# Altium schematic symbol library usb board.SchLib: 14 symbols
Pins are listed as number, name and electrical type; pins without a type are passive.

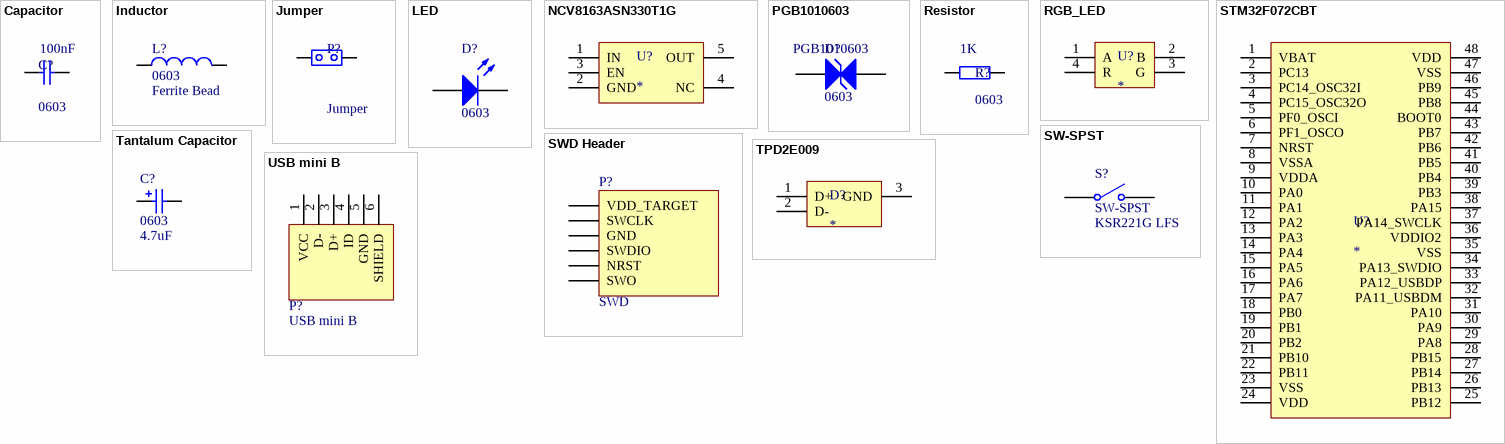
[diagram p0: symbols Capacitor to USB mini B]

## Capacitor
designator C?, comment 0603  value 100nF
Capacitor
footprint 0603_HandSoldering (Chip Resistor, 2-Leads, Body 1.6x0.8mm, IPC Medium Density)
pins: 1, 2

## Inductor
designator L?, comment 0603  value Ferrite Bead
Inductor
footprint 0603_HandSoldering (Chip Resistor, 2-Leads, Body 1.6x0.8mm, IPC Medium Density)
pins: 1, 2

## Jumper
designator P?
Jumper, Through-Hole
footprint JMP_TH (Jumper, Through-Hole)
pins: 1, 2

## LED
designator D?, comment 0603
LED
footprint diode_0603_HandSoldering (Chip Diode, 2-Leads, Body 1.6x0.8mm, IPC Medium Density)
pins: 1 K, 2 A

## NCV8163ASN330T1G
designator U?
3V3 LDO
footprint NCV8163ASN330T1G_SOT32_5 (SOT23, 5-Leads, Body 3,00x2,75mm, Pitch 0,95mm, IPC Medium Density)
pins: 1 IN, 2 GND, 3 EN, 4 NC, 5 OUT

## PGB1010603
designator D?, comment 0603  value PGB1010603
ESD diode
footprint 0603_HandSoldering (Chip Resistor, 2-Leads, Body 1.6x0.8mm, IPC Medium Density)
pins: 1 A, 2 K

## Resistor
designator R?, comment 0603  value 1K
Resistor
footprint 0603_HandSoldering (Chip Resistor, 2-Leads, Body 1.6x0.8mm, IPC Medium Density)
pins: 1, 2

## RGB_LED
designator U?
RGB LED ASMB-MTB0-0A3A2
footprint PLCC-4_LED (Standard PLCC-4 LED package)
pins: 1 A, 2 B, 3 G, 4 R

## STM32F072CBT
designator U?
ARM Cortex M0 MCU
footprint LQFP48 (TSQFP, 48-Leads, Body 7,00x7,00mm, Pitch 0,50mm, IPC Medium Density)
pins: 1 VBAT, 2 PC13, 3 PC14_OSC32I, 4 PC15_OSC32O, 5 PF0_OSCI, 6 PF1_OSCO, 7 NRST, 8 VSSA, 9 VDDA, 10 PA0, 11 PA1, 12 PA2, 13 PA3, 14 PA4, 15 PA5, 16 PA6, 17 PA7, 18 PB0, 19 PB1, 20 PB2, 21 PB10, 22 PB11, 23 VSS, 24 VDD, 25 PB12, 26 PB13, 27 PB14, 28 PB15, 29 PA8, 30 PA9, 31 PA10, 32 PA11_USBDM, 33 PA12_USBDP, 34 PA13_SWDIO, 35 VSS, 36 VDDIO2, 37 PA14_SWCLK, 38 PA15, 39 PB3, 40 PB4, 41 PB5, 42 PB6, 43 PB7, 44 BOOT0, 45 PB8, 46 PB9, 47 VSS, 48 VDD

## SW-SPST
designator S?  value KSR221G LFS
KSR221G LFS Tactile Switch
footprint KSR221G_LFS_Tactile_Switch (C & K COMPONENTS  KSR221G LFS  SWITCH, SPST, 0.05A, 32VDC, SMD)
pins: 1 COMMON, 2 NO

## SWD Header
designator P?, comment SWD
STM32 SWD Header
footprint HDR1X6 (Connector; Header; 6 Position)
pins: 1 VDD_TARGET, 2 SWCLK, 3 GND, 4 SWDIO, 5 NRST, 6 SWO

## Tantalum Capacitor
designator C?, comment 0603  value 4.7uF
Tantalum Capacitor
footprint diode_0603_HandSoldering (Chip Diode, 2-Leads, Body 1.6x0.8mm, IPC Medium Density)
pins: 1, 2
1 alternate drawing of the same symbol

## TPD2E009
designator D?
ESD protection
footprint TPD2E009_SOT23_3 (SOT23, 3-Leads, Body 3,0x2,6mm (max), Pitch 0,95mm, IPC Medium Density)
pins: 1 D+, 2 D-, 3 GND

## USB mini B
designator P?
USB 2.0 mini B receptacle
footprint USB mini B receptacle (popravek)
pins: 1 VCC, 2 D-, 3 D+, 4 ID, 5 GND, 6 SHIELD